# EAGLE library part ARDUINOPROMINI (library pcbqr)
sparkfun arduino pro mini, 5V/16
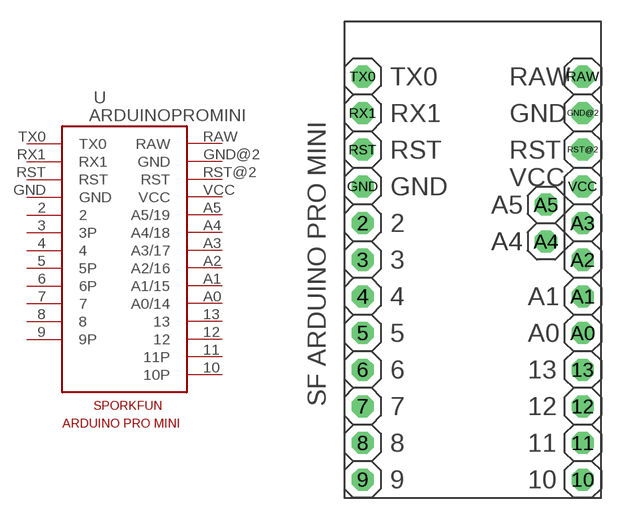
[diagram p2: symbol with the pads of ARDUINO_PRO_MINI; footprint ARDUINO_PRO_MINI]

Designator prefix U

## ARDUINOPROMINI  [ARDUINO_PRO_MINI]
2  2
3  3P
4  4
5  5P
6  6P
7  7
8  8
9  9P
10  10P
11  11P
12  12
13  13
A0  A0/14
A1  A1/15
A2  A2/16
A3  A3/17
A4  A4/18
A5  A5/19
GND  GND  pwr
GND@2  GND  pwr
RAW  RAW  pwr
RST  RST
RST@2  RST
RX1  RX1
TX0  TX0
VCC  VCC  pwr

## Footprint ARDUINO_PRO_MINI (pad centres in mm)
drill 1.016 octagon: 2 0,17.78; 3 0,15.24; 4 0,12.7; 5 0,10.16; 6 0,7.62; 7 0,5.08; 8 0,2.54; 9 0,0; 10 15.24,0; 11 15.24,2.54; 12 15.24,5.08; 13 15.24,7.62; A0 15.24,10.16; A1 15.24,12.7; A2 15.24,15.24; A3 15.24,17.78; A4 12.7,16.51; A5 12.7,19.05; GND 0,20.32; GND@2 15.24,25.4; RAW 15.24,27.94; RST 0,22.86; RST@2 15.24,22.86; RX1 0,25.4; TX0 0,27.94; VCC 15.24,20.32